# Altium footprint library Zener Diode 5.1V.PcbLib: 2 footprints
Each footprint in its own frame and in the unit in brackets; x right, y up, seen from the top. Pads: shape width x height; smd on the part's side, far side on the other; paste and mask are expansions set on the pad; w line width, h text height; cw(c..) or ccw(c..) is an arc to the next point about the centre after c.
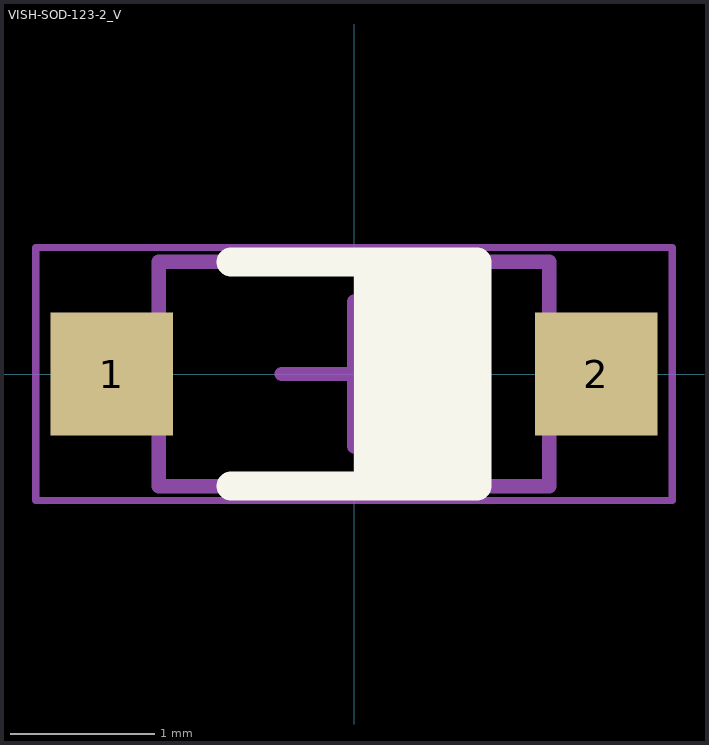
[diagram p0: the footprints below, top view; thin cyan lines are the x and y axes]

## PCBComponent_1 [mm]

## VISH-SOD-123-2_V [mm] "SMD, 2-Leads, Body 2.7x1.55mm, Height 1.35mm"
height 1.35
pads (2):
  rect 0.85x0.85 smd: 1(-1.675,0) 2(1.675,0)
Top Overlay:
  rectangle: 0,-0.775 0.85,0.775
  lines w0.2: -0.85,-0.775 0.85,-0.775 0.85,0.775 -0.85,0.775
Mechanical 13:
  lines w0.1: -1.35,-0.775 -1.35,0.775 1.35,0.775 1.35,-0.775 -1.35,-0.775
Mechanical 15:
  lines w0.05: -2.2,-0.875 -2.2,0.875 2.2,0.875 2.2,-0.875 -2.2,-0.875
  lines w0.1: -0.5,0 0.5,0 ; 0,-0.5 0,0.5
3D body: height 1.35, standoff 0.1, extent -1.35,-0.775 1.35,0.775